# Altium footprint library ESP32-C3.PcbLib: 3 footprints
Each footprint in its own frame and in the unit in brackets; x right, y up, seen from the top. Pads: shape width x height; smd on the part's side, far side on the other; paste and mask are expansions set on the pad; w line width, h text height; cw(c..) or ccw(c..) is an arc to the next point about the centre after c.
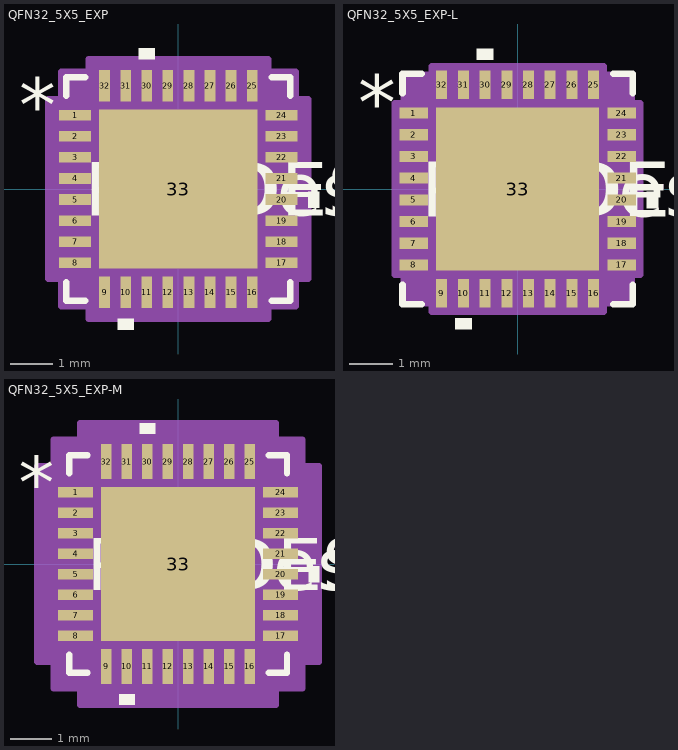
[diagram p0: the footprints below, top view; thin cyan lines are the x and y axes]

## QFN32_5X5_EXP [mm]
pads (33):
  rect 0.757x0.255 smd paste+0 mask+0: 1(-2.449,1.75) 2(-2.449,1.25) 3(-2.449,0.75) 4(-2.449,0.25) 5(-2.449,-0.25) 6(-2.449,-0.75) 7(-2.449,-1.25) 8(-2.449,-1.75) 17(2.449,-1.75) 18(2.449,-1.25) 19(2.449,-0.75) 20(2.449,-0.25) 21(2.449,0.25) 22(2.449,0.75) 23(2.449,1.25) 24(2.449,1.75)
  rect 0.255x0.757 smd paste+0 mask+0: 9(-1.75,-2.449) 10(-1.25,-2.449) 11(-0.75,-2.449) 12(-0.25,-2.449) 13(0.25,-2.449) 14(0.75,-2.449) 15(1.25,-2.449) 16(1.75,-2.449) 25(1.75,2.449) 26(1.25,2.449) 27(0.75,2.449) 28(0.25,2.449) 29(-0.25,2.449) 30(-0.75,2.449) 31(-1.25,2.449) 32(-1.75,2.449)
  rect 3.759x3.759 smd paste-1.88 mask+0: 33(0,0)
Top Overlay:
  region: -1.06,-3.081 -1.441,-3.081 -1.441,-3.335 -1.06,-3.335
  region: 3.081,-0.059 3.335,-0.059 3.335,-0.44 3.081,-0.44
  region: -0.56,3.081 -0.941,3.081 -0.941,3.335 -0.56,3.335
  lines w0.152: -2.654,-2.21 -2.654,-2.654 -2.21,-2.654 ; -2.654,2.21 -2.654,2.654 -2.21,2.654 ; 2.21,-2.654 2.654,-2.654 2.654,-2.21 ; 2.21,2.654 2.654,2.654 2.654,2.21
  text "*" at -3.78,1.365 h1.27
  text "RefDes" at -1.905,-0.635 h1.27
  text "REFDES" at -2.222,-0.635 h1.27
Top Paste:
  region: -0.1,1.78 -1.78,1.78 -1.78,0.1 -0.1,0.1
  region: -0.1,-0.1 -1.78,-0.1 -1.78,-1.78 -0.1,-1.78
  region: 1.78,1.78 0.1,1.78 0.1,0.1 1.78,0.1
  region: 1.78,-0.1 0.1,-0.1 0.1,-1.78 1.78,-1.78
Mechanical 13:
  lines w0.025: -2.527,1.257 -1.257,2.527 ; -2.527,-2.527 2.527,-2.527 ; -2.527,-2.527 -2.527,2.527 ; -2.527,-2.527 -2.527,-2.527 ; -2.527,-1.902 -2.527,-1.598 ; -2.527,-1.902 -2.527,-1.598 ; -2.527,-1.902 -2.527,-1.902 ; -2.527,-1.598 -2.527,-1.598 ; -2.527,-1.402 -2.527,-1.098 ; -2.527,-1.402 -2.527,-1.098 ; -2.527,-1.402 -2.527,-1.402 ; -2.527,-1.098 -2.527,-1.098 ; -2.527,-0.902 -2.527,-0.598 ; -2.527,-0.902 -2.527,-0.598 ; -2.527,-0.902 -2.527,-0.902 ; -2.527,-0.598 -2.527,-0.598 ; -2.527,-0.402 -2.527,-0.098 ; -2.527,-0.402 -2.527,-0.098 ; -2.527,-0.402 -2.527,-0.402 ; -2.527,-0.098 -2.527,-0.098 ; -2.527,0.098 -2.527,0.402 ; -2.527,0.098 -2.527,0.402 ; -2.527,0.098 -2.527,0.098 ; -2.527,0.402 -2.527,0.402 ; -2.527,0.598 -2.527,0.902 ; -2.527,0.598 -2.527,0.902 ; -2.527,0.598 -2.527,0.598 ; -2.527,0.902 -2.527,0.902 ; -2.527,1.098 -2.527,1.402 ; -2.527,1.098 -2.527,1.402 ; -2.527,1.098 -2.527,1.098 ; -2.527,1.402 -2.527,1.402 ; -2.527,1.598 -2.527,1.902 ; -2.527,1.598 -2.527,1.902 ; -2.527,1.598 -2.527,1.598 ; -2.527,1.902 -2.527,1.902 ; -2.527,2.527 2.527,2.527 ; -2.527,2.527 -2.527,2.527 ; -1.902,-2.527 -1.598,-2.527 ; -1.902,-2.527 -1.902,-2.527 ; -1.902,-2.527 -1.598,-2.527 ; -1.902,2.527 -1.598,2.527 ; -1.902,2.527 -1.598,2.527 ; -1.902,2.527 -1.902,2.527 ; -1.598,-2.527 -1.598,-2.527 ; -1.598,2.527 -1.598,2.527 ; -1.402,-2.527 -1.098,-2.527 ; -1.402,-2.527 -1.402,-2.527 ; -1.402,-2.527 -1.098,-2.527 ; -1.402,2.527 -1.098,2.527 ; -1.402,2.527 -1.098,2.527 ; -1.402,2.527 -1.402,2.527 ; -1.098,-2.527 -1.098,-2.527 ; -1.098,2.527 -1.098,2.527 ; -0.902,-2.527 -0.598,-2.527 ; -0.902,-2.527 -0.902,-2.527 ; -0.902,-2.527 -0.598,-2.527 ; -0.902,2.527 -0.598,2.527 ; -0.902,2.527 -0.598,2.527 ; -0.902,2.527 -0.902,2.527 ; -0.598,-2.527 -0.598,-2.527 ; -0.598,2.527 -0.598,2.527 ; -0.402,-2.527 -0.098,-2.527 ; -0.402,-2.527 -0.402,-2.527 ; -0.402,-2.527 -0.098,-2.527 ; -0.402,2.527 -0.098,2.527 ; -0.402,2.527 -0.098,2.527 ; -0.402,2.527 -0.402,2.527 ; -0.098,-2.527 -0.098,-2.527 ; -0.098,2.527 -0.098,2.527 ; 0.098,-2.527 0.402,-2.527 ; 0.098,-2.527 0.098,-2.527 ; 0.098,-2.527 0.402,-2.527 ; 0.098,2.527 0.402,2.527 ; 0.098,2.527 0.402,2.527 ; 0.098,2.527 0.098,2.527 ; 0.402,-2.527 0.402,-2.527 ; 0.402,2.527 0.402,2.527 ; 0.598,-2.527 0.902,-2.527 ; 0.598,-2.527 0.598,-2.527 ; 0.598,-2.527 0.902,-2.527 ; 0.598,2.527 0.902,2.527 ; 0.598,2.527 0.902,2.527 ; 0.598,2.527 0.598,2.527 ; 0.902,-2.527 0.902,-2.527 ; 0.902,2.527 0.902,2.527 ; 1.098,-2.527 1.402,-2.527 ; 1.098,-2.527 1.098,-2.527 ; 1.098,-2.527 1.402,-2.527 ; 1.098,2.527 1.402,2.527 ; 1.098,2.527 1.402,2.527 ; 1.098,2.527 1.098,2.527 ; 1.402,-2.527 1.402,-2.527 ; 1.402,2.527 1.402,2.527 ; 1.598,-2.527 1.902,-2.527 ; 1.598,-2.527 1.598,-2.527 ; 1.598,-2.527 1.902,-2.527 ; 1.598,2.527 1.902,2.527 ; 1.598,2.527 1.902,2.527 ; 1.598,2.527 1.598,2.527 ; 1.902,-2.527 1.902,-2.527 ; 1.902,2.527 1.902,2.527 ; 2.527,-2.527 2.527,-2.527 ; 2.527,-2.527 2.527,2.527 ; 2.527,-1.902 2.527,-1.598 ; 2.527,-1.902 2.527,-1.902 ; 2.527,-1.902 2.527,-1.598 ; 2.527,-1.598 2.527,-1.598 ; 2.527,-1.402 2.527,-1.098 ; 2.527,-1.402 2.527,-1.402 ; 2.527,-1.402 2.527,-1.098 ; 2.527,-1.098 2.527,-1.098 ; 2.527,-0.902 2.527,-0.598 ; 2.527,-0.902 2.527,-0.902 ; 2.527,-0.902 2.527,-0.598 ; 2.527,-0.598 2.527,-0.598 ; 2.527,-0.402 2.527,-0.098 ; 2.527,-0.402 2.527,-0.402 ; 2.527,-0.402 2.527,-0.098 ; 2.527,-0.098 2.527,-0.098 ; 2.527,0.098 2.527,0.402 ; 2.527,0.098 2.527,0.098 ; 2.527,0.098 2.527,0.402 ; 2.527,0.402 2.527,0.402 ; 2.527,0.598 2.527,0.902 ; 2.527,0.598 2.527,0.598 ; 2.527,0.598 2.527,0.902 ; 2.527,0.902 2.527,0.902 ; 2.527,1.098 2.527,1.402 ; 2.527,1.098 2.527,1.098 ; 2.527,1.098 2.527,1.402 ; 2.527,1.402 2.527,1.402 ; 2.527,1.598 2.527,1.902 ; 2.527,1.598 2.527,1.598 ; 2.527,1.598 2.527,1.902 ; 2.527,1.902 2.527,1.902 ; 2.527,2.527 2.527,2.527
  text "*" at -2.388,1.365 h1.27
  text "RefDes2" at -2.222,-0.635 h1.27
Mechanical 15:
  region: -2.131,-2.781 -2.781,-2.781 -2.781,-2.131 -3.081,-2.131 -3.081,2.131 -2.781,2.131 -2.781,2.781 -2.131,2.781 -2.131,3.081 2.131,3.081 2.131,2.781 2.781,2.781 2.781,2.131 3.081,2.131 3.081,-2.131 2.781,-2.131 2.781,-2.781 2.131,-2.781 2.131,-3.081 -2.131,-3.081
  lines w0.152: -3.081,-2.131 -2.781,-2.131 -2.781,-2.781 -2.131,-2.781 -2.131,-3.081 2.131,-3.081 2.131,-2.781 2.781,-2.781 2.781,-2.131 3.081,-2.131 3.081,2.131 2.781,2.131 2.781,2.781 2.131,2.781 2.131,3.081 -2.131,3.081 -2.131,2.781 -2.781,2.781 -2.781,2.131 -3.081,2.131 -3.081,-2.131
3D body "QFN32_5X5_EXP.step": height 0.89, standoff 0, extent -2.527,-2.527 2.527,2.527

## QFN32_5X5_EXP-L [mm]
pads (33):
  rect 0.657x0.255 smd paste+0 mask+0: 1(-2.399,1.75) 2(-2.399,1.25) 3(-2.399,0.75) 4(-2.399,0.25) 5(-2.399,-0.25) 6(-2.399,-0.75) 7(-2.399,-1.25) 8(-2.399,-1.75) 17(2.399,-1.75) 18(2.399,-1.25) 19(2.399,-0.75) 20(2.399,-0.25) 21(2.399,0.25) 22(2.399,0.75) 23(2.399,1.25) 24(2.399,1.75)
  rect 0.255x0.657 smd paste+0 mask+0: 9(-1.75,-2.399) 10(-1.25,-2.399) 11(-0.75,-2.399) 12(-0.25,-2.399) 13(0.25,-2.399) 14(0.75,-2.399) 15(1.25,-2.399) 16(1.75,-2.399) 25(1.75,2.399) 26(1.25,2.399) 27(0.75,2.399) 28(0.25,2.399) 29(-0.25,2.399) 30(-0.75,2.399) 31(-1.25,2.399) 32(-1.75,2.399)
  rect 3.759x3.759 smd paste-1.88 mask+0: 33(0,0)
Top Overlay:
  region: -1.06,-2.981 -1.441,-2.981 -1.441,-3.235 -1.06,-3.235
  region: 2.981,-0.059 3.235,-0.059 3.235,-0.44 2.981,-0.44
  region: -0.56,2.981 -0.941,2.981 -0.941,3.235 -0.56,3.235
  lines w0.152: -2.654,-2.21 -2.654,-2.654 -2.21,-2.654 ; -2.654,2.21 -2.654,2.654 -2.21,2.654 ; 2.21,-2.654 2.654,-2.654 2.654,-2.21 ; 2.21,2.654 2.654,2.654 2.654,2.21
  text "*" at -3.68,1.365 h1.27
  text "RefDes" at -1.905,-0.635 h1.27
  text "REFDES" at -2.222,-0.635 h1.27
Top Paste:
  region: -0.1,1.78 -1.78,1.78 -1.78,0.1 -0.1,0.1
  region: -0.1,-0.1 -1.78,-0.1 -1.78,-1.78 -0.1,-1.78
  region: 1.78,1.78 0.1,1.78 0.1,0.1 1.78,0.1
  region: 1.78,-0.1 0.1,-0.1 0.1,-1.78 1.78,-1.78
Mechanical 13:
  lines w0.025: -2.527,1.257 -1.257,2.527 ; -2.527,-2.527 2.527,-2.527 ; -2.527,-2.527 -2.527,2.527 ; -2.527,-2.527 -2.527,-2.527 ; -2.527,-1.902 -2.527,-1.598 ; -2.527,-1.902 -2.527,-1.598 ; -2.527,-1.902 -2.527,-1.902 ; -2.527,-1.598 -2.527,-1.598 ; -2.527,-1.402 -2.527,-1.098 ; -2.527,-1.402 -2.527,-1.098 ; -2.527,-1.402 -2.527,-1.402 ; -2.527,-1.098 -2.527,-1.098 ; -2.527,-0.902 -2.527,-0.598 ; -2.527,-0.902 -2.527,-0.598 ; -2.527,-0.902 -2.527,-0.902 ; -2.527,-0.598 -2.527,-0.598 ; -2.527,-0.402 -2.527,-0.098 ; -2.527,-0.402 -2.527,-0.098 ; -2.527,-0.402 -2.527,-0.402 ; -2.527,-0.098 -2.527,-0.098 ; -2.527,0.098 -2.527,0.402 ; -2.527,0.098 -2.527,0.402 ; -2.527,0.098 -2.527,0.098 ; -2.527,0.402 -2.527,0.402 ; -2.527,0.598 -2.527,0.902 ; -2.527,0.598 -2.527,0.902 ; -2.527,0.598 -2.527,0.598 ; -2.527,0.902 -2.527,0.902 ; -2.527,1.098 -2.527,1.402 ; -2.527,1.098 -2.527,1.402 ; -2.527,1.098 -2.527,1.098 ; -2.527,1.402 -2.527,1.402 ; -2.527,1.598 -2.527,1.902 ; -2.527,1.598 -2.527,1.902 ; -2.527,1.598 -2.527,1.598 ; -2.527,1.902 -2.527,1.902 ; -2.527,2.527 2.527,2.527 ; -2.527,2.527 -2.527,2.527 ; -1.902,-2.527 -1.598,-2.527 ; -1.902,-2.527 -1.902,-2.527 ; -1.902,-2.527 -1.598,-2.527 ; -1.902,2.527 -1.598,2.527 ; -1.902,2.527 -1.598,2.527 ; -1.902,2.527 -1.902,2.527 ; -1.598,-2.527 -1.598,-2.527 ; -1.598,2.527 -1.598,2.527 ; -1.402,-2.527 -1.098,-2.527 ; -1.402,-2.527 -1.402,-2.527 ; -1.402,-2.527 -1.098,-2.527 ; -1.402,2.527 -1.098,2.527 ; -1.402,2.527 -1.098,2.527 ; -1.402,2.527 -1.402,2.527 ; -1.098,-2.527 -1.098,-2.527 ; -1.098,2.527 -1.098,2.527 ; -0.902,-2.527 -0.598,-2.527 ; -0.902,-2.527 -0.902,-2.527 ; -0.902,-2.527 -0.598,-2.527 ; -0.902,2.527 -0.598,2.527 ; -0.902,2.527 -0.598,2.527 ; -0.902,2.527 -0.902,2.527 ; -0.598,-2.527 -0.598,-2.527 ; -0.598,2.527 -0.598,2.527 ; -0.402,-2.527 -0.098,-2.527 ; -0.402,-2.527 -0.402,-2.527 ; -0.402,-2.527 -0.098,-2.527 ; -0.402,2.527 -0.098,2.527 ; -0.402,2.527 -0.098,2.527 ; -0.402,2.527 -0.402,2.527 ; -0.098,-2.527 -0.098,-2.527 ; -0.098,2.527 -0.098,2.527 ; 0.098,-2.527 0.402,-2.527 ; 0.098,-2.527 0.098,-2.527 ; 0.098,-2.527 0.402,-2.527 ; 0.098,2.527 0.402,2.527 ; 0.098,2.527 0.402,2.527 ; 0.098,2.527 0.098,2.527 ; 0.402,-2.527 0.402,-2.527 ; 0.402,2.527 0.402,2.527 ; 0.598,-2.527 0.902,-2.527 ; 0.598,-2.527 0.598,-2.527 ; 0.598,-2.527 0.902,-2.527 ; 0.598,2.527 0.902,2.527 ; 0.598,2.527 0.902,2.527 ; 0.598,2.527 0.598,2.527 ; 0.902,-2.527 0.902,-2.527 ; 0.902,2.527 0.902,2.527 ; 1.098,-2.527 1.402,-2.527 ; 1.098,-2.527 1.098,-2.527 ; 1.098,-2.527 1.402,-2.527 ; 1.098,2.527 1.402,2.527 ; 1.098,2.527 1.402,2.527 ; 1.098,2.527 1.098,2.527 ; 1.402,-2.527 1.402,-2.527 ; 1.402,2.527 1.402,2.527 ; 1.598,-2.527 1.902,-2.527 ; 1.598,-2.527 1.598,-2.527 ; 1.598,-2.527 1.902,-2.527 ; 1.598,2.527 1.902,2.527 ; 1.598,2.527 1.902,2.527 ; 1.598,2.527 1.598,2.527 ; 1.902,-2.527 1.902,-2.527 ; 1.902,2.527 1.902,2.527 ; 2.527,-2.527 2.527,-2.527 ; 2.527,-2.527 2.527,2.527 ; 2.527,-1.902 2.527,-1.598 ; 2.527,-1.902 2.527,-1.902 ; 2.527,-1.902 2.527,-1.598 ; 2.527,-1.598 2.527,-1.598 ; 2.527,-1.402 2.527,-1.098 ; 2.527,-1.402 2.527,-1.402 ; 2.527,-1.402 2.527,-1.098 ; 2.527,-1.098 2.527,-1.098 ; 2.527,-0.902 2.527,-0.598 ; 2.527,-0.902 2.527,-0.902 ; 2.527,-0.902 2.527,-0.598 ; 2.527,-0.598 2.527,-0.598 ; 2.527,-0.402 2.527,-0.098 ; 2.527,-0.402 2.527,-0.402 ; 2.527,-0.402 2.527,-0.098 ; 2.527,-0.098 2.527,-0.098 ; 2.527,0.098 2.527,0.402 ; 2.527,0.098 2.527,0.098 ; 2.527,0.098 2.527,0.402 ; 2.527,0.402 2.527,0.402 ; 2.527,0.598 2.527,0.902 ; 2.527,0.598 2.527,0.598 ; 2.527,0.598 2.527,0.902 ; 2.527,0.902 2.527,0.902 ; 2.527,1.098 2.527,1.402 ; 2.527,1.098 2.527,1.098 ; 2.527,1.098 2.527,1.402 ; 2.527,1.402 2.527,1.402 ; 2.527,1.598 2.527,1.902 ; 2.527,1.598 2.527,1.598 ; 2.527,1.598 2.527,1.902 ; 2.527,1.902 2.527,1.902 ; 2.527,2.527 2.527,2.527
  text "*" at -2.388,1.365 h1.27
  text "RefDes2" at -2.222,-0.635 h1.27
Mechanical 15:
  region: -1.979,-2.629 -2.629,-2.629 -2.629,-1.979 -2.829,-1.979 -2.829,1.979 -2.629,1.979 -2.629,2.629 -1.979,2.629 -1.979,2.829 1.979,2.829 1.979,2.629 2.629,2.629 2.629,1.979 2.829,1.979 2.829,-1.979 2.629,-1.979 2.629,-2.629 1.979,-2.629 1.979,-2.829 -1.979,-2.829
  lines w0.152: -2.829,-1.979 -2.629,-1.979 -2.629,-2.629 -1.979,-2.629 -1.979,-2.829 1.979,-2.829 1.979,-2.629 2.629,-2.629 2.629,-1.979 2.829,-1.979 2.829,1.979 2.629,1.979 2.629,2.629 1.979,2.629 1.979,2.829 -1.979,2.829 -1.979,2.629 -2.629,2.629 -2.629,1.979 -2.829,1.979 -2.829,-1.979
3D body "QFN32_5X5_EXP.step": height 0.89, standoff 0, extent -2.527,-2.527 2.527,2.527

## QFN32_5X5_EXP-M [mm]
pads (33):
  rect 0.857x0.255 smd paste+0 mask+0: 1(-2.499,1.75) 2(-2.499,1.25) 3(-2.499,0.75) 4(-2.499,0.25) 5(-2.499,-0.25) 6(-2.499,-0.75) 7(-2.499,-1.25) 8(-2.499,-1.75) 17(2.499,-1.75) 18(2.499,-1.25) 19(2.499,-0.75) 20(2.499,-0.25) 21(2.499,0.25) 22(2.499,0.75) 23(2.499,1.25) 24(2.499,1.75)
  rect 0.255x0.857 smd paste+0 mask+0: 9(-1.75,-2.499) 10(-1.25,-2.499) 11(-0.75,-2.499) 12(-0.25,-2.499) 13(0.25,-2.499) 14(0.75,-2.499) 15(1.25,-2.499) 16(1.75,-2.499) 25(1.75,2.499) 26(1.25,2.499) 27(0.75,2.499) 28(0.25,2.499) 29(-0.25,2.499) 30(-0.75,2.499) 31(-1.25,2.499) 32(-1.75,2.499)
  rect 3.759x3.759 smd paste-1.88 mask+0: 33(0,0)
Top Overlay:
  region: -1.06,-3.181 -1.441,-3.181 -1.441,-3.435 -1.06,-3.435
  region: 3.181,-0.059 3.435,-0.059 3.435,-0.44 3.181,-0.44
  region: -0.56,3.181 -0.941,3.181 -0.941,3.435 -0.56,3.435
  lines w0.152: -2.654,-2.21 -2.654,-2.654 -2.21,-2.654 ; -2.654,2.21 -2.654,2.654 -2.21,2.654 ; 2.21,-2.654 2.654,-2.654 2.654,-2.21 ; 2.21,2.654 2.654,2.654 2.654,2.21
  text "*" at -3.88,1.365 h1.27
  text "RefDes" at -1.905,-0.635 h1.27
  text "REFDES" at -2.222,-0.635 h1.27
Top Paste:
  region: -0.1,1.78 -1.78,1.78 -1.78,0.1 -0.1,0.1
  region: -0.1,-0.1 -1.78,-0.1 -1.78,-1.78 -0.1,-1.78
  region: 1.78,1.78 0.1,1.78 0.1,0.1 1.78,0.1
  region: 1.78,-0.1 0.1,-0.1 0.1,-1.78 1.78,-1.78
Mechanical 13:
  lines w0.025: -2.527,1.257 -1.257,2.527 ; -2.527,-2.527 2.527,-2.527 ; -2.527,-2.527 -2.527,2.527 ; -2.527,-2.527 -2.527,-2.527 ; -2.527,-1.902 -2.527,-1.598 ; -2.527,-1.902 -2.527,-1.598 ; -2.527,-1.902 -2.527,-1.902 ; -2.527,-1.598 -2.527,-1.598 ; -2.527,-1.402 -2.527,-1.098 ; -2.527,-1.402 -2.527,-1.098 ; -2.527,-1.402 -2.527,-1.402 ; -2.527,-1.098 -2.527,-1.098 ; -2.527,-0.902 -2.527,-0.598 ; -2.527,-0.902 -2.527,-0.598 ; -2.527,-0.902 -2.527,-0.902 ; -2.527,-0.598 -2.527,-0.598 ; -2.527,-0.402 -2.527,-0.098 ; -2.527,-0.402 -2.527,-0.098 ; -2.527,-0.402 -2.527,-0.402 ; -2.527,-0.098 -2.527,-0.098 ; -2.527,0.098 -2.527,0.402 ; -2.527,0.098 -2.527,0.402 ; -2.527,0.098 -2.527,0.098 ; -2.527,0.402 -2.527,0.402 ; -2.527,0.598 -2.527,0.902 ; -2.527,0.598 -2.527,0.902 ; -2.527,0.598 -2.527,0.598 ; -2.527,0.902 -2.527,0.902 ; -2.527,1.098 -2.527,1.402 ; -2.527,1.098 -2.527,1.402 ; -2.527,1.098 -2.527,1.098 ; -2.527,1.402 -2.527,1.402 ; -2.527,1.598 -2.527,1.902 ; -2.527,1.598 -2.527,1.902 ; -2.527,1.598 -2.527,1.598 ; -2.527,1.902 -2.527,1.902 ; -2.527,2.527 2.527,2.527 ; -2.527,2.527 -2.527,2.527 ; -1.902,-2.527 -1.598,-2.527 ; -1.902,-2.527 -1.902,-2.527 ; -1.902,-2.527 -1.598,-2.527 ; -1.902,2.527 -1.598,2.527 ; -1.902,2.527 -1.598,2.527 ; -1.902,2.527 -1.902,2.527 ; -1.598,-2.527 -1.598,-2.527 ; -1.598,2.527 -1.598,2.527 ; -1.402,-2.527 -1.098,-2.527 ; -1.402,-2.527 -1.402,-2.527 ; -1.402,-2.527 -1.098,-2.527 ; -1.402,2.527 -1.098,2.527 ; -1.402,2.527 -1.098,2.527 ; -1.402,2.527 -1.402,2.527 ; -1.098,-2.527 -1.098,-2.527 ; -1.098,2.527 -1.098,2.527 ; -0.902,-2.527 -0.598,-2.527 ; -0.902,-2.527 -0.902,-2.527 ; -0.902,-2.527 -0.598,-2.527 ; -0.902,2.527 -0.598,2.527 ; -0.902,2.527 -0.598,2.527 ; -0.902,2.527 -0.902,2.527 ; -0.598,-2.527 -0.598,-2.527 ; -0.598,2.527 -0.598,2.527 ; -0.402,-2.527 -0.098,-2.527 ; -0.402,-2.527 -0.402,-2.527 ; -0.402,-2.527 -0.098,-2.527 ; -0.402,2.527 -0.098,2.527 ; -0.402,2.527 -0.098,2.527 ; -0.402,2.527 -0.402,2.527 ; -0.098,-2.527 -0.098,-2.527 ; -0.098,2.527 -0.098,2.527 ; 0.098,-2.527 0.402,-2.527 ; 0.098,-2.527 0.098,-2.527 ; 0.098,-2.527 0.402,-2.527 ; 0.098,2.527 0.402,2.527 ; 0.098,2.527 0.402,2.527 ; 0.098,2.527 0.098,2.527 ; 0.402,-2.527 0.402,-2.527 ; 0.402,2.527 0.402,2.527 ; 0.598,-2.527 0.902,-2.527 ; 0.598,-2.527 0.598,-2.527 ; 0.598,-2.527 0.902,-2.527 ; 0.598,2.527 0.902,2.527 ; 0.598,2.527 0.902,2.527 ; 0.598,2.527 0.598,2.527 ; 0.902,-2.527 0.902,-2.527 ; 0.902,2.527 0.902,2.527 ; 1.098,-2.527 1.402,-2.527 ; 1.098,-2.527 1.098,-2.527 ; 1.098,-2.527 1.402,-2.527 ; 1.098,2.527 1.402,2.527 ; 1.098,2.527 1.402,2.527 ; 1.098,2.527 1.098,2.527 ; 1.402,-2.527 1.402,-2.527 ; 1.402,2.527 1.402,2.527 ; 1.598,-2.527 1.902,-2.527 ; 1.598,-2.527 1.598,-2.527 ; 1.598,-2.527 1.902,-2.527 ; 1.598,2.527 1.902,2.527 ; 1.598,2.527 1.902,2.527 ; 1.598,2.527 1.598,2.527 ; 1.902,-2.527 1.902,-2.527 ; 1.902,2.527 1.902,2.527 ; 2.527,-2.527 2.527,-2.527 ; 2.527,-2.527 2.527,2.527 ; 2.527,-1.902 2.527,-1.598 ; 2.527,-1.902 2.527,-1.902 ; 2.527,-1.902 2.527,-1.598 ; 2.527,-1.598 2.527,-1.598 ; 2.527,-1.402 2.527,-1.098 ; 2.527,-1.402 2.527,-1.402 ; 2.527,-1.402 2.527,-1.098 ; 2.527,-1.098 2.527,-1.098 ; 2.527,-0.902 2.527,-0.598 ; 2.527,-0.902 2.527,-0.902 ; 2.527,-0.902 2.527,-0.598 ; 2.527,-0.598 2.527,-0.598 ; 2.527,-0.402 2.527,-0.098 ; 2.527,-0.402 2.527,-0.402 ; 2.527,-0.402 2.527,-0.098 ; 2.527,-0.098 2.527,-0.098 ; 2.527,0.098 2.527,0.402 ; 2.527,0.098 2.527,0.098 ; 2.527,0.098 2.527,0.402 ; 2.527,0.402 2.527,0.402 ; 2.527,0.598 2.527,0.902 ; 2.527,0.598 2.527,0.598 ; 2.527,0.598 2.527,0.902 ; 2.527,0.902 2.527,0.902 ; 2.527,1.098 2.527,1.402 ; 2.527,1.098 2.527,1.098 ; 2.527,1.098 2.527,1.402 ; 2.527,1.402 2.527,1.402 ; 2.527,1.598 2.527,1.902 ; 2.527,1.598 2.527,1.598 ; 2.527,1.598 2.527,1.902 ; 2.527,1.902 2.527,1.902 ; 2.527,2.527 2.527,2.527
  text "*" at -2.388,1.365 h1.27
  text "RefDes2" at -2.222,-0.635 h1.27
Mechanical 15:
  region: -2.385,-3.035 -3.035,-3.035 -3.035,-2.385 -3.435,-2.385 -3.435,2.385 -3.035,2.385 -3.035,3.035 -2.385,3.035 -2.385,3.435 2.385,3.435 2.385,3.035 3.035,3.035 3.035,2.385 3.435,2.385 3.435,-2.385 3.035,-2.385 3.035,-3.035 2.385,-3.035 2.385,-3.435 -2.385,-3.435
  lines w0.152: -3.435,-2.385 -3.035,-2.385 -3.035,-3.035 -2.385,-3.035 -2.385,-3.435 2.385,-3.435 2.385,-3.035 3.035,-3.035 3.035,-2.385 3.435,-2.385 3.435,2.385 3.035,2.385 3.035,3.035 2.385,3.035 2.385,3.435 -2.385,3.435 -2.385,3.035 -3.035,3.035 -3.035,2.385 -3.435,2.385 -3.435,-2.385
3D body "QFN32_5X5_EXP.step": height 0.89, standoff 0, extent -2.527,-2.527 2.527,2.527